# Altium footprint library dimploma.PcbLib: 50 footprints (part 3 of 4)
Each footprint in its own frame and in the unit in brackets; x right, y up, seen from the top. Pads: shape width x height; smd on the part's side, far side on the other; paste and mask are expansions set on the pad; w line width, h text height; cw(c..) or ccw(c..) is an arc to the next point about the centre after c.
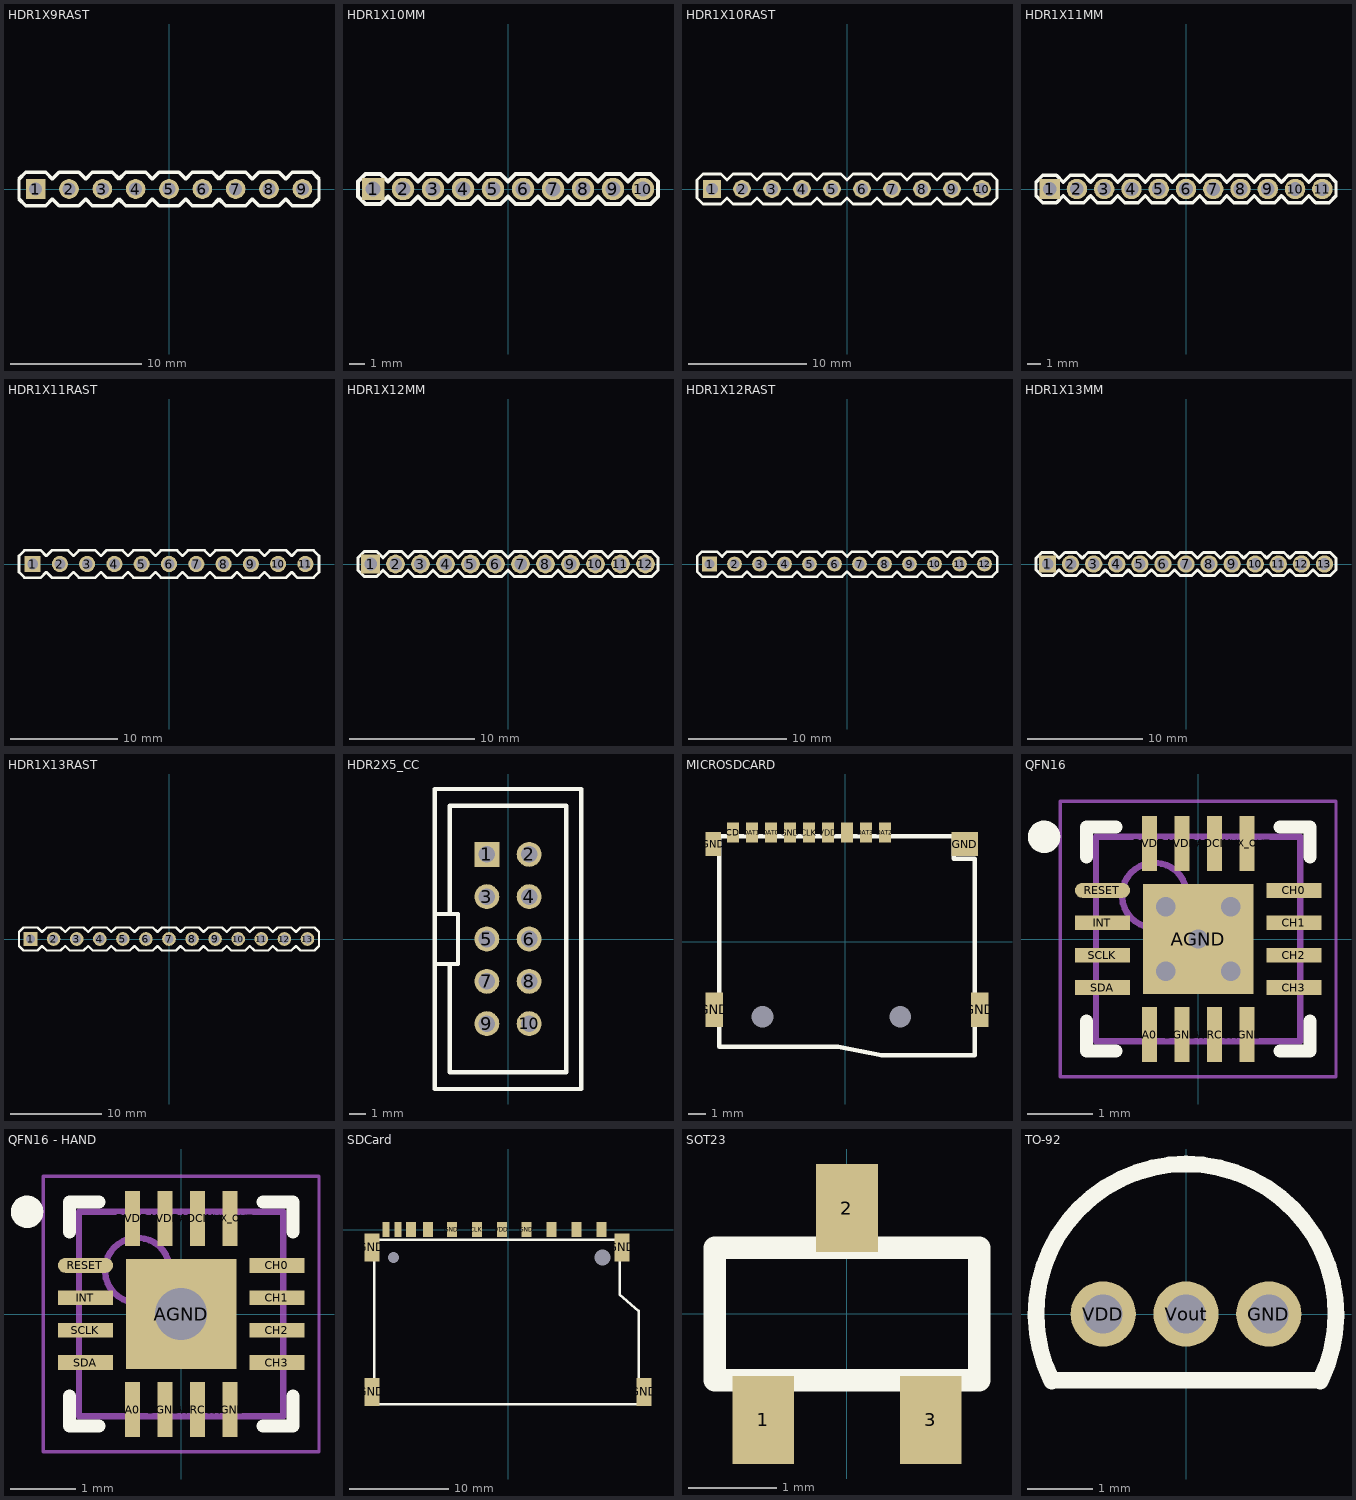
[diagram p2: the footprints below, top view; thin cyan lines are the x and y axes]

## HDR1X9RAST [mm]
pads (9):
  rect 1.5x1.5 hole 1: 1(-10.16,0)
  round 1.5 hole 1: 2(-7.62,0) 3(-5.08,0) 4(-2.54,0) 5(0,0) 6(2.54,0) 7(5.08,0) 8(7.62,0) 9(10.16,0)
Top Overlay:
  lines w0.254: -11.43,-0.762 -10.922,-1.27 -9.398,-1.27 -8.89,-0.762 -8.382,-1.27 -6.858,-1.27 -6.35,-0.762 -5.842,-1.27 -4.318,-1.27 -3.81,-0.762 -3.302,-1.27 -1.778,-1.27 -1.27,-0.762 -0.762,-1.27 0.762,-1.27 1.27,-0.762 1.778,-1.27 3.302,-1.27 3.81,-0.762 4.318,-1.27 5.842,-1.27 6.35,-0.762 6.858,-1.27 8.382,-1.27 8.89,-0.762 9.398,-1.27 10.922,-1.27 11.43,-0.762 11.43,0.762 10.922,1.27 9.398,1.27 8.89,0.762 8.382,1.27 6.858,1.27 6.35,0.762 5.842,1.27 4.318,1.27 3.81,0.762 3.302,1.27 1.778,1.27 1.27,0.762 0.762,1.27 -0.762,1.27 -1.27,0.762 -1.778,1.27 -3.302,1.27 -3.81,0.762 -4.318,1.27 -5.842,1.27 -6.35,0.762 -6.858,1.27 -8.382,1.27 -8.89,0.762 -9.398,1.27 -10.922,1.27 -11.43,0.762 -11.43,-0.762
3D body "hdr9x1rast.stp": height 8.07, standoff -3.63, extent -11.43,-1.27 11.43,1.27

## HDR1X10MM [mm]
pads (10):
  rect 1.5x1.5 hole 1: 1(-9,0)
  round 1.5 hole 1: 2(-7,0) 3(-5,0) 4(-3,0) 5(-1,0) 6(1,0) 7(3,0) 8(5,0) 9(7,0) 10(9,0)
Top Overlay:
  lines w0.254: -10,-0.5 -9.5,-1 -8.5,-1 -8,-0.5 -7.5,-1 -6.5,-1 -6,-0.5 -5.5,-1 -4.5,-1 -4,-0.5 -3.5,-1 -2.5,-1 -2,-0.5 -1.5,-1 -0.5,-1 0,-0.5 0.5,-1 1.5,-1 2,-0.5 2.5,-1 3.5,-1 4,-0.5 4.5,-1 5.5,-1 6,-0.5 6.5,-1 7.5,-1 8,-0.5 8.5,-1 9.5,-1 10,-0.5 10,0.5 9.5,1 8.5,1 8,0.5 7.5,1 6.5,1 6,0.5 5.5,1 4.5,1 4,0.5 3.5,1 2.5,1 2,0.5 1.5,1 0.5,1 0,0.5 -0.5,1 -1.5,1 -2,0.5 -2.5,1 -3.5,1 -4,0.5 -4.5,1 -5.5,1 -6,0.5 -6.5,1 -7.5,1 -8,0.5 -8.5,1 -9.5,1 -10,0.5 -10,-0.5

## HDR1X10RAST [mm]
pads (10):
  rect 1.5x1.5 hole 1: 1(-11.43,0)
  round 1.5 hole 1: 2(-8.89,0) 3(-6.35,0) 4(-3.81,0) 5(-1.27,0) 6(1.27,0) 7(3.81,0) 8(6.35,0) 9(8.89,0) 10(11.43,0)
Top Overlay:
  lines w0.254: -12.7,-0.762 -12.7,0.762 -12.192,1.27 -10.668,1.27 -10.16,0.762 -9.652,1.27 -8.128,1.27 -7.62,0.762 -7.112,1.27 -5.588,1.27 -5.08,0.762 -4.572,1.27 -3.048,1.27 -2.54,0.762 -2.032,1.27 -0.508,1.27 0,0.762 0.508,1.27 2.032,1.27 2.54,0.762 3.048,1.27 4.572,1.27 5.08,0.762 5.588,1.27 7.112,1.27 7.62,0.762 8.128,1.27 9.652,1.27 10.16,0.762 10.668,1.27 12.192,1.27 12.7,0.762 12.7,-0.762 12.192,-1.27 10.668,-1.27 10.16,-0.762 9.652,-1.27 8.128,-1.27 7.62,-0.762 7.112,-1.27 5.588,-1.27 5.08,-0.762 4.572,-1.27 3.048,-1.27 2.54,-0.762 2.032,-1.27 0.508,-1.27 0,-0.762 -0.508,-1.27 -2.032,-1.27 -2.54,-0.762 -3.048,-1.27 -4.572,-1.27 -5.08,-0.762 -5.588,-1.27 -7.112,-1.27 -7.62,-0.762 -8.128,-1.27 -9.652,-1.27 -10.16,-0.762 -10.668,-1.27 -12.192,-1.27 -12.7,-0.762
3D body "hdr10x1rast.stp": height 8.07, standoff -3.63, extent -12.7,-1.27 12.7,1.27

## HDR1X11MM [mm]
pads (11):
  rect 1.5x1.5 hole 1: 1(-10,0)
  round 1.5 hole 1: 2(-8,0) 3(-6,0) 4(-4,0) 5(-2,0) 6(0,0) 7(2,0) 8(4,0) 9(6,0) 10(8,0) 11(10,0)
Top Overlay:
  lines w0.254: -11,-0.5 -11,0.5 -10.5,1 -9.5,1 -9,0.5 -8.5,1 -7.5,1 -7,0.5 -6.5,1 -5.5,1 -5,0.5 -4.5,1 -3.5,1 -3,0.5 -2.5,1 -1.5,1 -1,0.5 -0.5,1 0.5,1 1,0.5 1.5,1 2.5,1 3,0.5 3.5,1 4.5,1 5,0.5 5.5,1 6.5,1 7,0.5 7.5,1 8.5,1 9,0.5 9.5,1 10.5,1 11,0.5 11,-0.5 10.5,-1 9.5,-1 9,-0.5 8.5,-1 7.5,-1 7,-0.5 6.5,-1 5.5,-1 5,-0.5 4.5,-1 3.5,-1 3,-0.5 2.5,-1 1.5,-1 1,-0.5 0.5,-1 -0.5,-1 -1,-0.5 -1.5,-1 -2.5,-1 -3,-0.5 -3.5,-1 -4.5,-1 -5,-0.5 -5.5,-1 -6.5,-1 -7,-0.5 -7.5,-1 -8.5,-1 -9,-0.5 -9.5,-1 -10.5,-1 -11,-0.5

## HDR1X11RAST [mm]
pads (11):
  rect 1.5x1.5 hole 1: 1(-12.7,0)
  round 1.5 hole 1: 2(-10.16,0) 3(-7.62,0) 4(-5.08,0) 5(-2.54,0) 6(0,0) 7(2.54,0) 8(5.08,0) 9(7.62,0) 10(10.16,0) 11(12.7,0)
Top Overlay:
  lines w0.254: -13.97,-0.762 -13.462,-1.27 -11.938,-1.27 -11.43,-0.762 -10.922,-1.27 -9.398,-1.27 -8.89,-0.762 -8.382,-1.27 -6.858,-1.27 -6.35,-0.762 -5.842,-1.27 -4.318,-1.27 -3.81,-0.762 -3.302,-1.27 -1.778,-1.27 -1.27,-0.762 -0.762,-1.27 0.762,-1.27 1.27,-0.762 1.778,-1.27 3.302,-1.27 3.81,-0.762 4.318,-1.27 5.842,-1.27 6.35,-0.762 6.858,-1.27 8.382,-1.27 8.89,-0.762 9.398,-1.27 10.922,-1.27 11.43,-0.762 11.938,-1.27 13.462,-1.27 13.97,-0.762 13.97,0.762 13.462,1.27 11.938,1.27 11.43,0.762 10.922,1.27 9.398,1.27 8.89,0.762 8.382,1.27 6.858,1.27 6.35,0.762 5.842,1.27 4.318,1.27 3.81,0.762 3.302,1.27 1.778,1.27 1.27,0.762 0.762,1.27 -0.762,1.27 -1.27,0.762 -1.778,1.27 -3.302,1.27 -3.81,0.762 -4.318,1.27 -5.842,1.27 -6.35,0.762 -6.858,1.27 -8.382,1.27 -8.89,0.762 -9.398,1.27 -10.922,1.27 -11.43,0.762 -11.938,1.27 -13.462,1.27 -13.97,0.762 -13.97,-0.762
3D body "hdr11x1rast.stp": height 8.07, standoff -3.63, extent -13.97,-1.27 13.97,1.27

## HDR1X12MM [mm]
pads (12):
  rect 1.5x1.5 hole 1: 1(-11,0)
  round 1.5 hole 1: 2(-9,0) 3(-7,0) 4(-5,0) 5(-3,0) 6(-1,0) 7(1,0) 8(3,0) 9(5,0) 10(7,0) 11(9,0) 12(11,0)
Top Overlay:
  lines w0.254: -12,-0.5 -11.5,-1 -10.5,-1 -10,-0.5 -9.5,-1 -8.5,-1 -8,-0.5 -7.5,-1 -6.5,-1 -6,-0.5 -5.5,-1 -4.5,-1 -4,-0.5 -3.5,-1 -2.5,-1 -2,-0.5 -1.5,-1 -0.5,-1 0,-0.5 0.5,-1 1.5,-1 2,-0.5 2.5,-1 3.5,-1 4,-0.5 4.5,-1 5.5,-1 6,-0.5 6.5,-1 7.5,-1 8,-0.5 8.5,-1 9.5,-1 10,-0.5 10.5,-1 11.5,-1 12,-0.5 12,0.5 11.5,1 10.5,1 10,0.5 9.5,1 8.5,1 8,0.5 7.5,1 6.5,1 6,0.5 5.5,1 4.5,1 4,0.5 3.5,1 2.5,1 2,0.5 1.5,1 0.5,1 0,0.5 -0.5,1 -1.5,1 -2,0.5 -2.5,1 -3.5,1 -4,0.5 -4.5,1 -5.5,1 -6,0.5 -6.5,1 -7.5,1 -8,0.5 -8.5,1 -9.5,1 -10,0.5 -10.5,1 -11.5,1 -12,0.5 -12,-0.5

## HDR1X12RAST [mm]
pads (12):
  rect 1.5x1.5 hole 1: 1(-13.97,0)
  round 1.5 hole 1: 2(-11.43,0) 3(-8.89,0) 4(-6.35,0) 5(-3.81,0) 6(-1.27,0) 7(1.27,0) 8(3.81,0) 9(6.35,0) 10(8.89,0) 11(11.43,0) 12(13.97,0)
Top Overlay:
  lines w0.254: -15.24,-0.762 -14.732,-1.27 -13.208,-1.27 -12.7,-0.762 -12.192,-1.27 -10.668,-1.27 -10.16,-0.762 -9.652,-1.27 -8.128,-1.27 -7.62,-0.762 -7.112,-1.27 -5.588,-1.27 -5.08,-0.762 -4.572,-1.27 -3.048,-1.27 -2.54,-0.762 -2.032,-1.27 -0.508,-1.27 0,-0.762 0.508,-1.27 2.032,-1.27 2.54,-0.762 3.048,-1.27 4.572,-1.27 5.08,-0.762 5.588,-1.27 7.112,-1.27 7.62,-0.762 8.128,-1.27 9.652,-1.27 10.16,-0.762 10.668,-1.27 12.192,-1.27 12.7,-0.762 13.208,-1.27 14.732,-1.27 15.24,-0.762 15.24,0.762 14.732,1.27 13.208,1.27 12.7,0.762 12.192,1.27 10.668,1.27 10.16,0.762 9.652,1.27 8.128,1.27 7.62,0.762 7.112,1.27 5.588,1.27 5.08,0.762 4.572,1.27 3.048,1.27 2.54,0.762 2.032,1.27 0.508,1.27 0,0.762 -0.508,1.27 -2.032,1.27 -2.54,0.762 -3.048,1.27 -4.572,1.27 -5.08,0.762 -5.588,1.27 -7.112,1.27 -7.62,0.762 -8.128,1.27 -9.652,1.27 -10.16,0.762 -10.668,1.27 -12.192,1.27 -12.7,0.762 -13.208,1.27 -14.732,1.27 -15.24,0.762 -15.24,-0.762

## HDR1X13MM [mm]
pads (13):
  rect 1.5x1.5 hole 1: 1(-12,0)
  round 1.5 hole 1: 2(-10,0) 3(-8,0) 4(-6,0) 5(-4,0) 6(-2,0) 7(0,0) 8(2,0) 9(4,0) 10(6,0) 11(8,0) 12(10,0) 13(12,0)
Top Overlay:
  lines w0.254: -13,-0.5 -13,0.5 -12.5,1 -11.5,1 -11,0.5 -10.5,1 -9.5,1 -9,0.5 -8.5,1 -7.5,1 -7,0.5 -6.5,1 -5.5,1 -5,0.5 -4.5,1 -3.5,1 -3,0.5 -2.5,1 -1.5,1 -1,0.5 -0.5,1 0.5,1 1,0.5 1.5,1 2.5,1 3,0.5 3.5,1 4.5,1 5,0.5 5.5,1 6.5,1 7,0.5 7.5,1 8.5,1 9,0.5 9.5,1 10.5,1 11,0.5 11.5,1 12.5,1 13,0.5 13,-0.5 12.5,-1 11.5,-1 11,-0.5 10.5,-1 9.5,-1 9,-0.5 8.5,-1 7.5,-1 7,-0.5 6.5,-1 5.5,-1 5,-0.5 4.5,-1 3.5,-1 3,-0.5 2.5,-1 1.5,-1 1,-0.5 0.5,-1 -0.5,-1 -1,-0.5 -1.5,-1 -2.5,-1 -3,-0.5 -3.5,-1 -4.5,-1 -5,-0.5 -5.5,-1 -6.5,-1 -7,-0.5 -7.5,-1 -8.5,-1 -9,-0.5 -9.5,-1 -10.5,-1 -11,-0.5 -11.5,-1 -12.5,-1 -13,-0.5

## HDR1X13RAST [mm]
pads (13):
  rect 1.5x1.5 hole 1: 1(-15.24,0)
  round 1.5 hole 1: 2(-12.7,0) 3(-10.16,0) 4(-7.62,0) 5(-5.08,0) 6(-2.54,0) 7(0,0) 8(2.54,0) 9(5.08,0) 10(7.62,0) 11(10.16,0) 12(12.7,0) 13(15.24,0)
Top Overlay:
  lines w0.254: -16.51,-0.762 -16.51,0.762 -16.002,1.27 -14.478,1.27 -13.97,0.762 -13.462,1.27 -11.938,1.27 -11.43,0.762 -10.922,1.27 -9.398,1.27 -8.89,0.762 -8.382,1.27 -6.858,1.27 -6.35,0.762 -5.842,1.27 -4.318,1.27 -3.81,0.762 -3.302,1.27 -1.778,1.27 -1.27,0.762 -0.762,1.27 0.762,1.27 1.27,0.762 1.778,1.27 3.302,1.27 3.81,0.762 4.318,1.27 5.842,1.27 6.35,0.762 6.858,1.27 8.382,1.27 8.89,0.762 9.398,1.27 10.922,1.27 11.43,0.762 11.938,1.27 13.462,1.27 13.97,0.762 14.478,1.27 16.002,1.27 16.51,0.762 16.51,-0.762 16.002,-1.27 14.478,-1.27 13.97,-0.762 13.462,-1.27 11.938,-1.27 11.43,-0.762 10.922,-1.27 9.398,-1.27 8.89,-0.762 8.382,-1.27 6.858,-1.27 6.35,-0.762 5.842,-1.27 4.318,-1.27 3.81,-0.762 3.302,-1.27 1.778,-1.27 1.27,-0.762 0.762,-1.27 -0.762,-1.27 -1.27,-0.762 -1.778,-1.27 -3.302,-1.27 -3.81,-0.762 -4.318,-1.27 -5.842,-1.27 -6.35,-0.762 -6.858,-1.27 -8.382,-1.27 -8.89,-0.762 -9.398,-1.27 -10.922,-1.27 -11.43,-0.762 -11.938,-1.27 -13.462,-1.27 -13.97,-0.762 -14.478,-1.27 -16.002,-1.27 -16.51,-0.762

## HDR2X5_CC [mm]
pads (10):
  rect 1.5x1.5 hole 1: 1(-1.27,5.08)
  round 1.5 hole 1: 2(1.27,5.08) 3(-1.27,2.54) 4(1.27,2.54) 5(-1.27,0) 6(1.27,0) 7(-1.27,-2.54) 8(1.27,-2.54) 9(-1.27,-5.08) 10(1.27,-5.08)
Top Overlay:
  lines w0.254: -4.4,-1.5 -3,-1.5 -3,1.5 -4.4,1.5 ; -3.5,-1.5 -3.5,-8 3.5,-8 3.5,8 -3.5,8 -3.5,1.5 ; -4.4,-9 -4.4,9 4.4,9 4.4,-9 -4.4,-9
3D body "CCDebugger_header.stp": height 9, standoff -3.6, extent -4.475,-10.16 4.475,10.16

## MICROSDCARD [mm]
pads (15):
  round 0 hole 1.25: 14(3.2,-4.35) 15(-4.8,-4.35)
  rect 0.7x1.15 smd: CD(-6.5,6.325) CLK(-2.1,6.325) CMDIO(0.1,6.325) DAT0(-4.3,6.325) DAT1(-5.4,6.325) DAT2(2.3,6.325) DAT3(1.2,6.325) GND(-3.2,6.325) VDD(-1,6.325)
  rect 0.88x1.4 smd: GND(-7.66,5.65)
  rect 1x2 smd: GND(-7.6,-3.95) GND(7.8,-3.95)
  rect 1.55x1.4 smd: GND(6.925,5.65)
Top Overlay:
  lines w0.254: -7.3,-6.1 -0.4,-6.1 2.1,-6.6 7.5,-6.6 7.5,4.8 6.3,4.8 6.3,6.1 -7.3,6.1 -7.3,-6.1

## QFN16 [mm]
height 0.8
pads (17):
  rect 0.23x0.85 smd: A0(-0.75,-1.475) ADCIN(0.25,1.475) AGND(0.75,-1.475) AVDD(-0.25,1.475) DGND(-0.25,-1.475) DVDD(-0.75,1.475) MUX_OUT(0.75,1.475) PWRCON(0.25,-1.475)
  rect 1.7x1.7 smd: AGND(0,0)
  rect 0.85x0.23 smd: CH0(1.475,0.75) CH1(1.475,0.25) CH2(1.475,-0.25) CH3(1.475,-0.75) INT(-1.475,0.25) SCLK(-1.475,-0.25) SDA(-1.475,-0.75)
  oval 0.85x0.23 smd: RESET(-1.475,0.75)
via -0.5,0.5 diameter 0.5 hole 0.3
via -0.5,-0.5 diameter 0.5 hole 0.3
via 0.5,-0.5 diameter 0.5 hole 0.3
via 0.5,0.5 diameter 0.5 hole 0.3
via 0,0 diameter 0.5 hole 0.3
Top Overlay:
  circle w0.25: c-2.375,1.575 r0.125
  lines w0.2: -1.725,-1.265 -1.725,-1.725 -1.265,-1.725 ; -1.725,1.265 -1.725,1.725 -1.265,1.725 ; 1.265,-1.725 1.725,-1.725 1.725,-1.265 ; 1.265,1.725 1.725,1.725 1.725,1.265
Mechanical 13:
  circle w0.1: c-0.675,0.675 r0.5
  lines w0.1: -1.575,-1.575 1.575,-1.575 1.575,1.575 -1.575,1.575 -1.575,-1.575
Mechanical 15:
  lines w0.05: -2.125,-2.125 2.125,-2.125 2.125,2.125 -2.125,2.125 -2.125,-2.125
  lines w0.1: -0.5,0 0.5,0 ; 0,-0.5 0,0.5
3D body: height 0.8, standoff 0.05, extent -1.575,-1.575 1.575,1.575

## QFN16 - HAND [mm]
height 0.8
pads (17):
  rect 0.23x0.85 smd: A0(-0.75,-1.475) ADCIN(0.25,1.475) AGND(0.75,-1.475) AVDD(-0.25,1.475) DGND(-0.25,-1.475) DVDD(-0.75,1.475) MUX_OUT(0.75,1.475) PWRCON(0.25,-1.475)
  rect 1.7x1.7 smd: AGND(0,0)
  rect 0.85x0.23 smd: CH0(1.475,0.75) CH1(1.475,0.25) CH2(1.475,-0.25) CH3(1.475,-0.75) INT(-1.475,0.25) SCLK(-1.475,-0.25) SDA(-1.475,-0.75)
  oval 0.85x0.23 smd: RESET(-1.475,0.75)
via 0,0 diameter 1.2 hole 0.8
Top Overlay:
  circle w0.25: c-2.375,1.575 r0.125
  lines w0.2: -1.725,-1.265 -1.725,-1.725 -1.265,-1.725 ; -1.725,1.265 -1.725,1.725 -1.265,1.725 ; 1.265,-1.725 1.725,-1.725 1.725,-1.265 ; 1.265,1.725 1.725,1.725 1.725,1.265
Mechanical 13:
  circle w0.1: c-0.675,0.675 r0.5
  lines w0.1: -1.575,-1.575 1.575,-1.575 1.575,1.575 -1.575,1.575 -1.575,-1.575
Mechanical 15:
  lines w0.05: -2.125,-2.125 2.125,-2.125 2.125,2.125 -2.125,2.125 -2.125,-2.125
  lines w0.1: -0.5,0 0.5,0 ; 0,-0.5 0,0.5
3D body: height 0.8, standoff 0.05, extent -1.575,-1.575 1.575,1.575

## SDCard [mm]
pads (17):
  round 0 hole 1.1: 16(-11.5,-2.8)
  round 0 hole 1.6: 17(9.5,-2.8)
  rect 0.7x1.5 smd: CD(-11.05,0) WP(-12.25,0)
  rect 1x1.5 smd: CLK(-3.125,0) CMDIO(4.375,0) DAT0(-8.05,0) DAT1(-9.75,0) DAT2(9.375,0) DAT3(6.875,0) GND(-5.625,0) GND(1.875,0) VDD(-0.625,0)
  rect 1.5x2.8 smd: GND(-13.65,-16.275) GND(-13.65,-1.775) GND(11.45,-1.775) GND(13.65,-16.275)
Top Overlay:
  lines w0.254: -13.4,-17.5 13.1,-17.5 13.1,-8.15 11.2,-6.5 11.2,-1 -13.4,-1 -13.4,-17.5
3D body "SDCardSlotplate.stp": height 3.49, standoff 0, extent -14.15,-17.45 13.75,-0.55

## SOT23 [mm]
pads (3):
  rect 0.7x1 smd: 1(-0.95,-1.2) 2(0,1.2) 3(0.95,-1.2)
Top Overlay:
  lines w0.254: -1.5,-0.75 -1.5,0.75 1.5,0.75 1.5,-0.75 -1.5,-0.75

## TO-92 [mm]
pads (3):
  round 1 hole 0.6: GND(1.27,0) VDD(-1.27,0) Vout(0,0)
Top Overlay:
  lines w0.254: -2.057,-1.029 cw(c0,0) 2.057,-1.029 ; -2.032,-1.016 2.032,-1.016